# Altium footprint library CC3220.PcbLib: 1 footprints
Each footprint in its own frame and in the unit in brackets; x right, y up, seen from the top. Pads: shape width x height; smd on the part's side, far side on the other; paste and mask are expansions set on the pad; w line width, h text height; cw(c..) or ccw(c..) is an arc to the next point about the centre after c.
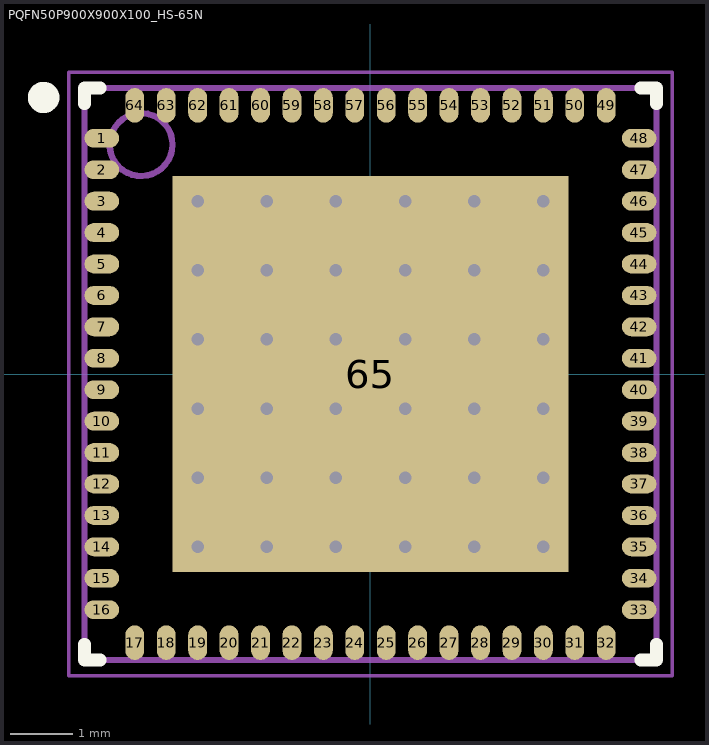
[diagram p0: the footprint, top view; thin cyan lines are the x and y axes]

## PQFN50P900X900X100_HS-65N [mm] "PQFN, 64-Leads, Body 9.00x9.00mm, Pitch 0.50mm, Thermal Pad 6.30x6.30mm, IPC Medium Density"
height 1
pads (65):
  oval 0.55x0.3 smd: 1(-4.275,3.75) 2(-4.275,3.25) 3(-4.275,2.75) 4(-4.275,2.25) 5(-4.275,1.75) 6(-4.275,1.25) 7(-4.275,0.75) 8(-4.275,0.25) 9(-4.275,-0.25) 10(-4.275,-0.75) 11(-4.275,-1.25) 12(-4.275,-1.75) 13(-4.275,-2.25) 14(-4.275,-2.75) 15(-4.275,-3.25) 16(-4.275,-3.75) 33(4.275,-3.75) 34(4.275,-3.25) 35(4.275,-2.75) 36(4.275,-2.25) 37(4.275,-1.75) 38(4.275,-1.25) 39(4.275,-0.75) 40(4.275,-0.25) 41(4.275,0.25) 42(4.275,0.75) 43(4.275,1.25) 44(4.275,1.75) 45(4.275,2.25) 46(4.275,2.75) 47(4.275,3.25) 48(4.275,3.75)
  oval 0.3x0.55 smd: 17(-3.75,-4.275) 18(-3.25,-4.275) 19(-2.75,-4.275) 20(-2.25,-4.275) 21(-1.75,-4.275) 22(-1.25,-4.275) 23(-0.75,-4.275) 24(-0.25,-4.275) 25(0.25,-4.275) 26(0.75,-4.275) 27(1.25,-4.275) 28(1.75,-4.275) 29(2.25,-4.275) 30(2.75,-4.275) 31(3.25,-4.275) 32(3.75,-4.275) 49(3.75,4.275) 50(3.25,4.275) 51(2.75,4.275) 52(2.25,4.275) 53(1.75,4.275) 54(1.25,4.275) 55(0.75,4.275) 56(0.25,4.275) 57(-0.25,4.275) 58(-0.75,4.275) 59(-1.25,4.275) 60(-1.75,4.275) 61(-2.25,4.275) 62(-2.75,4.275) 63(-3.25,4.275) 64(-3.75,4.275)
  rect 6.3x6.3 smd: 65(0,0)
via 2.75,-2.75 diameter 0.5 hole 0.2
via 1.65,-2.75 diameter 0.5 hole 0.2
via 0.55,-2.75 diameter 0.5 hole 0.2
via -0.55,-2.75 diameter 0.5 hole 0.2
via -1.65,-2.75 diameter 0.5 hole 0.2
via -2.75,-2.75 diameter 0.5 hole 0.2
via 2.75,-1.65 diameter 0.5 hole 0.2
via 1.65,-1.65 diameter 0.5 hole 0.2
via 0.55,-1.65 diameter 0.5 hole 0.2
via -0.55,-1.65 diameter 0.5 hole 0.2
via -1.65,-1.65 diameter 0.5 hole 0.2
via -2.75,-1.65 diameter 0.5 hole 0.2
via 2.75,-0.55 diameter 0.5 hole 0.2
via 1.65,-0.55 diameter 0.5 hole 0.2
via 0.55,-0.55 diameter 0.5 hole 0.2
via -0.55,-0.55 diameter 0.5 hole 0.2
via -1.65,-0.55 diameter 0.5 hole 0.2
via -2.75,-0.55 diameter 0.5 hole 0.2
via 2.75,0.55 diameter 0.5 hole 0.2
via 1.65,0.55 diameter 0.5 hole 0.2
via 0.55,0.55 diameter 0.5 hole 0.2
via -0.55,0.55 diameter 0.5 hole 0.2
via -1.65,0.55 diameter 0.5 hole 0.2
via -2.75,0.55 diameter 0.5 hole 0.2
via 2.75,1.65 diameter 0.5 hole 0.2
via 1.65,1.65 diameter 0.5 hole 0.2
via 0.55,1.65 diameter 0.5 hole 0.2
via -0.55,1.65 diameter 0.5 hole 0.2
via -1.65,1.65 diameter 0.5 hole 0.2
via -2.75,1.65 diameter 0.5 hole 0.2
via 2.75,2.75 diameter 0.5 hole 0.2
via 1.65,2.75 diameter 0.5 hole 0.2
via 0.55,2.75 diameter 0.5 hole 0.2
via -0.55,2.75 diameter 0.5 hole 0.2
via -1.65,2.75 diameter 0.5 hole 0.2
via -2.75,2.75 diameter 0.5 hole 0.2
Top Overlay:
  circle w0.25: c-5.2,4.4 r0.125
  lines w0.2: -4.55,-4.3 -4.55,-4.55 -4.3,-4.55 ; -4.55,4.3 -4.55,4.55 -4.3,4.55 ; 4.3,-4.55 4.55,-4.55 4.55,-4.3 ; 4.3,4.55 4.55,4.55 4.55,4.3
Mechanical 13:
  circle w0.1: c-3.65,3.65 r0.5
  lines w0.1: -4.55,-4.55 4.55,-4.55 4.55,4.55 -4.55,4.55 -4.55,-4.55
Mechanical 15:
  lines w0.05: -4.8,-4.8 4.8,-4.8 4.8,4.8 -4.8,4.8 -4.8,-4.8
  lines w0.1: -0.5,0 0.5,0 ; 0,-0.5 0,0.5
3D body: height 1, standoff 0.05, extent -4.55,-4.55 4.55,4.55